# Altium footprint library dolinepcb.PcbLib: 11 footprints
Each footprint in its own frame and in the unit in brackets; x right, y up, seen from the top. Pads: shape width x height; smd on the part's side, far side on the other; paste and mask are expansions set on the pad; w line width, h text height; cw(c..) or ccw(c..) is an arc to the next point about the centre after c.
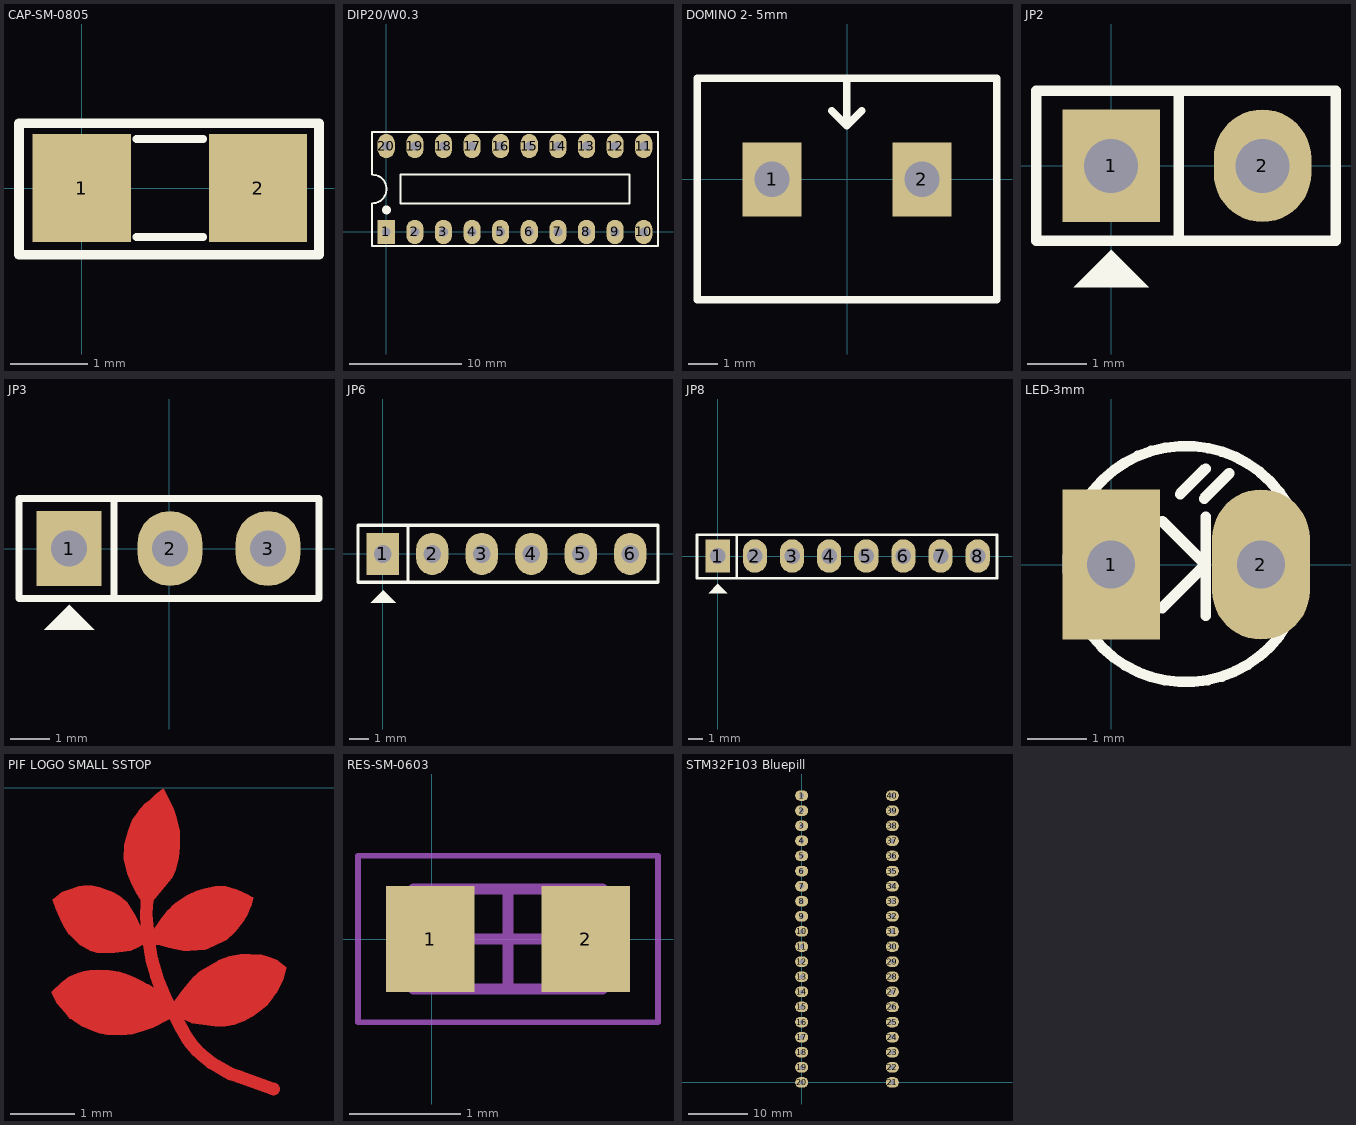
[diagram p0: the footprints below, top view; thin cyan lines are the x and y axes]

## CAP-SM-0805 [mil]
pads (2):
  rect 50x55 smd: 1(0,0) 2(90,0)
Top Overlay:
  lines w4: 28,-25 62,-25 ; 28,25 62,25
  lines w5: -32,-34 -32,33 121,33 121,-34 -32,-34
3D body "0805 SMD Capacitor.step": height 31.39, standoff 0.6, extent 5.63,-24.6 84.37,24.61

## DIP20/W0.3 [mil]
pads (20):
  rect 60x85 hole 31: 1(0,0)
  oval 60x85 hole 31: 2(100,0) 3(200,0) 4(300,0) 5(400,0) 6(500,0) 7(600,0) 8(700,0) 9(800,0) 10(900,0) 11(900,300) 12(800,300) 13(700,300) 14(600,300) 15(500,300) 16(400,300) 17(300,300) 18(200,300) 19(100,300) 20(0,300)
Top Overlay:
  circle w15: c1,77 r8
  lines w7: -50.38,100.05 ccw(c-48.69,150.02) -50,200 ; -50,100 -50,-50 950,-50 950,350 -50,350 -50,201 ; 50,100 850,100 850,200 50,200 50,100
3D body "User Library-20-pin-dip.STEP": height 155, standoff -130, extent -91,-18 945,322

## DOMINO 2- 5mm [mm]
pads (2):
  rect 2x2.5 hole 1.2: 1(-2.54,0) 2(2.54,0)
Top Overlay:
  lines w0.254: -0.521,2.324 -0.013,1.816 ; -0.013,3.378 -0.013,1.816 ; 0.495,2.324 -0.013,1.816 ; -5.08,-4.077 5.08,-4.077 5.08,3.429 -5.08,3.429 -5.08,-4.077
3D body "SW3DPS-HDR1x2-MED-GREEN.STEP": height 10, standoff -4, extent -5,-4.071 5,3.429

## JP2 [mil]
pads (2):
  rect 65x75 hole 36: 1(0,0)
  oval 65x75 hole 36: 2(101,0)
Top Overlay:
  region: 0,-56 -25,-81 25,-81
  lines w7: 45,-50 45,49 ; -50,-50 -50,50 150,50 150,-50 -50,-50
3D body "JP2.stp": height 323.44, standoff -117.51, extent -48.03,-50 148.03,48.43

## JP3 [mil]
pads (3):
  rect 65x75 hole 36: 1(-100,0)
  oval 65x75 hole 36: 2(1,0) 3(99,0)
Top Overlay:
  region: -100,-56 -125,-81 -75,-81
  lines w7: -55,-50 -55,49 ; -150,-50 -150,50 150,50 150,-50 -150,-50
3D body "User Library-PinHeaderX3.STEP": height 355.04, standoff -124.88, extent -150,-59.96 150,55

## JP6 [mil]
pads (6):
  rect 65x85 hole 36: 1(0,0)
  oval 65x85 hole 36: 2(100,0) 3(200,0) 4(300,0) 5(400,0) 6(500,0)
Top Overlay:
  region: 1,-74 -24,-99 26,-99
  lines w7: 51,-57 51,56 ; -50,-57 -50,58 556,58 556,-57 -50,-57
3D body "JP1-6.stp": height 323.43, standoff -117.51, extent -48.03,-50 548.03,48.43

## JP8 [mil]
pads (8):
  rect 65x90 hole 42: 1(0,0)
  oval 65x90 hole 42: 2(100,0) 3(200,0) 4(300,0) 5(400,0) 6(500,0) 7(600,0) 8(700,0)
Top Overlay:
  region: 0,-75 -25,-100 25,-100
  lines w7: 51,-60 51,56 ; -56,-60 752,-60 752,57 -56,57 -56,-60
3D body "JP1-8.stp": height 323.43, standoff -117.51, extent -48.03,-50 748.03,48.43

## LED-3mm [mil]
pads (2):
  rect 65x100 hole 32: 1(0,0)
  oval 65x100 hole 32: 2(100,0)
Top Overlay:
  lines w7: 34,-29 63,0 34,29 ; 46,47 63,64 ; 62,44 79,61 ; 63,-34 63,32 ; 117.92,-39.35 117.92,39.84
  lines w7.01: 117.57,-39.74 cw(c49.8,0.35) 117.72,40.19
3D body "SW3DPS-LED DIP 3MM-DEFAULT.STEP": height 217.14, standoff -117.51, extent -24.8,-74.81 112.99,74.8

## PIF LOGO SMALL SSTOP [mil]
Top Layer:
  region: -224.88,-60.64 -224.92,-60.63 -230.92,-61.6 -230.95,-61.62 -230.98,-61.61 -236.38,-63.18 -236.42,-63.21 -236.48,-63.22 -242.18,-66.08 -242.2,-66.11 -242.22,-66.11 -248.32,-70.01 -248.34,-70.03 -248.36,-70.04 -251.23,-72.24 -251.26,-72.3 -251.32,-72.33 -252.56,-73.89 -254.41,-75.42 -254.45,-75.48 -254.51,-75.52 -256.06,-77.73 -257.94,-79.91 -257.96,-79.95 -257.99,-79.98 -259.58,-82.5 -261.78,-85.66 -261.78,-85.68 -261.8,-85.69 -263.7,-88.85 -263.72,-89 -263.77,-89.13 -263.76,-89.16 -263.77,-89.19 -263.14,-94.89 -263.12,-94.92 -263.13,-94.96 -263.02,-95.1 -262.94,-95.26 -262.9,-95.27 -262.88,-95.29 -261.32,-96.26 -261.2,-96.28 -261.11,-96.34 -258.91,-96.63 -253.59,-98.22 -253.57,-98.22 -253.55,-98.23 -249.42,-99.16 -249.41,-99.16 -244.68,-100.13 -244.62,-100.12 -244.57,-100.14 -240.77,-100.14 -240.75,-100.13 -240.72,-100.14 -231.42,-99.41 -231.35,-99.37 -231.28,-99.37 -226.21,-97.47 -226.19,-97.45 -226.16,-97.45 -218.56,-93.65 -218.51,-93.6 -218.44,-93.57 -212.74,-88.5 -212.72,-88.46 -212.67,-88.43 -208.24,-82.73 -208.23,-82.71 -208.21,-82.69 -205.38,-78.26 -205.37,-78.21 -205.33,-78.17 -203.1,-72.77 -203.1,-72.74 -203.08,-72.71 -201.81,-67.97 -201.83,-67.82 -201.82,-67.67 -201.86,-67.62 -201.86,-67.56 -201.93,-67.52 -201.92,-67.43 -201.94,-67.41 -201.94,-67.38 -202.07,-67.25 -202.19,-67.11 -205.36,-65.55 -207.49,-64.48 -207.5,-64.48 -207.51,-64.48 -212.24,-62.28 -212.29,-62.27 -212.33,-62.24 -218.67,-60.64 -218.74,-60.65 -218.8,-60.63 -224.83,-60.63
  region: -224.88,-60.64 -224.92,-60.63 -230.92,-61.6 -230.95,-61.62 -230.98,-61.61 -236.38,-63.18 -236.42,-63.21 -236.48,-63.22 -242.18,-66.08 -242.2,-66.11 -242.22,-66.11 -248.32,-70.01 -248.34,-70.03 -248.36,-70.04 -251.23,-72.24 -251.26,-72.3 -251.32,-72.33 -252.56,-73.89 -254.41,-75.42 -254.45,-75.48 -254.51,-75.52 -256.06,-77.73 -257.94,-79.91 -257.96,-79.95 -257.99,-79.98 -259.58,-82.5 -261.78,-85.66 -261.78,-85.68 -261.8,-85.69 -263.7,-88.85 -263.72,-89 -263.77,-89.13 -263.76,-89.16 -263.77,-89.19 -263.14,-94.89 -263.12,-94.92 -263.13,-94.96 -263.02,-95.1 -262.94,-95.26 -262.9,-95.27 -262.88,-95.29 -261.32,-96.26 -261.2,-96.28 -261.11,-96.34 -258.91,-96.63 -253.59,-98.22 -253.57,-98.22 -253.55,-98.23 -249.42,-99.16 -249.41,-99.16 -244.68,-100.13 -244.62,-100.12 -244.57,-100.14 -240.77,-100.14 -240.75,-100.13 -240.72,-100.14 -231.42,-99.41 -231.35,-99.37 -231.28,-99.37 -226.21,-97.47 -226.19,-97.45 -226.16,-97.45 -218.56,-93.65 -218.51,-93.6 -218.44,-93.57 -212.74,-88.5 -212.72,-88.46 -212.67,-88.43 -208.24,-82.73 -208.23,-82.71 -208.21,-82.69 -205.38,-78.26 -205.37,-78.21 -205.33,-78.17 -203.1,-72.77 -203.1,-72.74 -203.08,-72.71 -201.81,-67.97 -201.83,-67.82 -201.82,-67.67 -201.86,-67.62 -201.86,-67.56 -201.93,-67.52 -201.92,-67.43 -201.94,-67.41 -201.94,-67.38 -202.07,-67.25 -202.19,-67.11 -205.36,-65.55 -207.49,-64.48 -207.5,-64.48 -207.51,-64.48 -212.24,-62.28 -212.29,-62.27 -212.33,-62.24 -218.67,-60.64 -218.74,-60.65 -218.8,-60.63 -224.83,-60.63
  region: -304.01,-60.01 -304.07,-60 -308.81,-60.63 -308.85,-60.65 -308.9,-60.65 -313.96,-62.25 -313.97,-62.25 -318.74,-63.82 -318.81,-63.88 -318.9,-63.91 -324.6,-68.34 -324.66,-68.45 -324.75,-68.53 -324.76,-68.62 -324.8,-68.7 -324.77,-68.82 -324.78,-68.95 -322.88,-74.35 -322.86,-74.36 -322.86,-74.38 -319.36,-82.61 -319.34,-82.64 -319.33,-82.68 -317.43,-85.84 -317.43,-85.85 -314.89,-89.95 -314.84,-89.99 -314.81,-90.06 -307.84,-96.72 -307.77,-96.75 -307.72,-96.81 -301.72,-99.98 -301.67,-99.98 -301.64,-100.01 -297.84,-101.28 -297.75,-101.27 -297.67,-101.31 -286.9,-101.31 -286.87,-101.3 -286.84,-101.3 -281.44,-100.67 -281.43,-100.67 -281.42,-100.67 -276.99,-100.04 -276.93,-100 -276.86,-100 -273.06,-98.4 -273.04,-98.38 -273.01,-98.37 -269.54,-96.47 -269.49,-96.41 -269.42,-96.38 -269.37,-96.26 -269.28,-96.15 -269.29,-96.07 -269.26,-96 -269.26,-89.37 -269.3,-89.26 -269.3,-89.15 -273.74,-79.02 -273.77,-78.99 -273.78,-78.94 -279.48,-70.07 -279.55,-70.03 -279.59,-69.95 -283.06,-67.08 -283.09,-67.07 -283.11,-67.04 -287.54,-64.21 -287.6,-64.2 -287.64,-64.16 -295.87,-60.99 -295.93,-61 -295.97,-60.97 -301.37,-60 -301.55,-60.04 -301.74,-60.06 -301.75,-60.08 -301.78,-60.09 -301.86,-60.21 -303.94,-60
  region: -304.01,-60.01 -304.07,-60 -308.81,-60.63 -308.85,-60.65 -308.9,-60.65 -313.96,-62.25 -313.97,-62.25 -318.74,-63.82 -318.81,-63.88 -318.9,-63.91 -324.6,-68.34 -324.66,-68.45 -324.75,-68.53 -324.76,-68.62 -324.8,-68.7 -324.77,-68.82 -324.78,-68.95 -322.88,-74.35 -322.86,-74.36 -322.86,-74.38 -319.36,-82.61 -319.34,-82.64 -319.33,-82.68 -317.43,-85.84 -317.43,-85.85 -314.89,-89.95 -314.84,-89.99 -314.81,-90.06 -307.84,-96.72 -307.77,-96.75 -307.72,-96.81 -301.72,-99.98 -301.67,-99.98 -301.64,-100.01 -297.84,-101.28 -297.75,-101.27 -297.67,-101.31 -286.9,-101.31 -286.87,-101.3 -286.84,-101.3 -281.44,-100.67 -281.43,-100.67 -281.42,-100.67 -276.99,-100.04 -276.93,-100 -276.86,-100 -273.06,-98.4 -273.04,-98.38 -273.01,-98.37 -269.54,-96.47 -269.49,-96.41 -269.42,-96.38 -269.37,-96.26 -269.28,-96.15 -269.29,-96.07 -269.26,-96 -269.26,-89.37 -269.3,-89.26 -269.3,-89.15 -273.74,-79.02 -273.77,-78.99 -273.78,-78.94 -279.48,-70.07 -279.55,-70.03 -279.59,-69.95 -283.06,-67.08 -283.09,-67.07 -283.11,-67.04 -287.54,-64.21 -287.6,-64.2 -287.64,-64.16 -295.87,-60.99 -295.93,-61 -295.97,-60.97 -301.37,-60 -301.55,-60.04 -301.74,-60.06 -301.75,-60.08 -301.78,-60.09 -301.86,-60.21 -303.94,-60
  region: -297.44,-111.74 -297.47,-111.73 -301.9,-112.03 -301.93,-112.04 -301.96,-112.03 -305.76,-112.67 -305.79,-112.69 -305.84,-112.69 -309.64,-113.95 -309.66,-113.97 -309.68,-113.97 -311.91,-114.93 -315.07,-116.2 -315.12,-116.25 -315.2,-116.27 -319.3,-119.44 -319.31,-119.46 -319.34,-119.47 -325.37,-125.17 -325.42,-125.29 -325.51,-125.38 -325.5,-125.47 -325.54,-125.55 -325.5,-125.67 -325.49,-125.79 -323.89,-129.26 -323.88,-129.27 -323.87,-129.29 -322.31,-132.16 -322.27,-132.19 -322.26,-132.24 -319.72,-135.4 -319.71,-135.41 -319.7,-135.43 -317.18,-138.25 -314.32,-141.74 -314.16,-141.83 -314,-141.93 -313,-142.12 -311.75,-143.35 -311.68,-143.38 -311.64,-143.43 -306.28,-146.6 -306.24,-146.6 -306.22,-146.63 -301.15,-148.86 -301.14,-148.86 -301.13,-148.87 -296.37,-150.77 -296.31,-150.77 -296.27,-150.8 -291.54,-151.73 -291.49,-151.72 -291.45,-151.74 -282.59,-152.07 -282.55,-152.06 -282.51,-152.07 -276.18,-151.44 -276.13,-151.41 -276.08,-151.42 -269.74,-149.52 -269.73,-149.51 -269.72,-149.51 -263.39,-147.28 -263.36,-147.25 -263.32,-147.25 -253.19,-142.18 -253.13,-142.12 -253.05,-142.08 -253.01,-141.98 -252.93,-141.91 -252.93,-141.89 -252.92,-141.87 -252.93,-141.78 -252.89,-141.7 -252.93,-141.6 -252.93,-141.49 -256.73,-132.33 -256.81,-132.25 -256.85,-132.15 -259.49,-129.48 -259.23,-127.85 -259.24,-127.83 -259.23,-127.82 -259.28,-127.63 -259.33,-127.45 -259.35,-127.44 -259.35,-127.42 -261.32,-125.06 -261.3,-125.07 -261.11,-125.09 -260.92,-125.13 -260.91,-125.12 -260.89,-125.12 -260.74,-125 -260.58,-124.89 -260.58,-124.88 -260.56,-124.87 -260.54,-124.68 -260.5,-124.49 -260.51,-124.47 -260.51,-124.46 -260.63,-124.3 -260.74,-124.15 -266.11,-120.68 -266.28,-120.65 -266.45,-120.59 -266.48,-120.61 -266.51,-120.6 -266.66,-120.71 -266.67,-120.71 -269.92,-118.77 -269.95,-118.76 -269.97,-118.74 -274.74,-116.51 -274.75,-116.51 -274.76,-116.5 -280.13,-114.3 -280.15,-114.3 -280.16,-114.29 -283.96,-113.02 -284.01,-113.02 -284.05,-113 -290.08,-112.03 -290.11,-112.04 -290.14,-112.03 -297.41,-111.73
  region: -209.78,-102.25 -209.83,-102.23 -216.47,-103.5 -216.51,-103.53 -216.56,-103.53 -223.23,-106.06 -223.26,-106.1 -223.31,-106.1 -229,-109.56 -232.46,-111.46 -232.48,-111.48 -232.51,-111.49 -235.68,-113.72 -235.7,-113.75 -235.73,-113.76 -238.89,-116.6 -238.91,-116.64 -238.95,-116.66 -244.98,-123.96 -244.99,-123.97 -245.01,-123.98 -250.71,-131.88 -250.73,-131.98 -250.79,-132.05 -250.78,-132.13 -250.81,-132.2 -250.79,-132.24 -250.8,-132.29 -250.75,-132.37 -250.74,-132.46 -247.33,-138.63 -247.63,-140.34 -247.6,-140.48 -247.61,-140.62 -247.56,-140.67 -247.54,-140.74 -247.42,-140.82 -247.33,-140.92 -239.73,-144.42 -239.64,-144.43 -239.57,-144.47 -225.3,-146.37 -225.27,-146.36 -225.23,-146.37 -218.6,-146.37 -218.55,-146.35 -218.5,-146.36 -213.43,-145.4 -213.4,-145.38 -213.36,-145.38 -207.02,-143.18 -206.98,-143.14 -206.93,-143.14 -202.5,-140.6 -202.48,-140.58 -202.46,-140.58 -196.12,-136.14 -196.11,-136.12 -196.07,-136.11 -193.21,-133.57 -193.19,-133.53 -193.15,-133.51 -190.31,-130.01 -190.31,-129.98 -190.28,-129.97 -187.75,-126.17 -187.75,-126.15 -187.73,-126.14 -185.2,-121.7 -185.19,-121.68 -185.18,-121.66 -183.28,-117.56 -183.27,-117.52 -183.25,-117.48 -181.35,-110.81 -181.36,-110.71 -181.33,-110.61 -181.38,-110.51 -181.39,-110.4 -181.48,-110.34 -181.53,-110.25 -186.59,-106.15 -186.67,-106.12 -186.73,-106.06 -191.47,-104.16 -191.49,-104.16 -191.5,-104.15 -196.57,-102.55 -196.65,-102.56 -196.73,-102.53 -197.06,-102.53 -203.68,-102.23 -203.69,-102.23 -203.7,-102.23 -209.73,-102.23
  region: -209.78,-102.25 -209.83,-102.23 -216.47,-103.5 -216.51,-103.53 -216.56,-103.53 -223.23,-106.06 -223.26,-106.1 -223.31,-106.1 -229,-109.56 -232.46,-111.46 -232.48,-111.48 -232.51,-111.49 -235.68,-113.72 -235.7,-113.75 -235.73,-113.76 -238.89,-116.6 -238.91,-116.64 -238.95,-116.66 -244.98,-123.96 -244.99,-123.97 -245.01,-123.98 -250.71,-131.88 -250.73,-131.98 -250.79,-132.05 -250.78,-132.13 -250.81,-132.2 -250.79,-132.24 -250.8,-132.29 -250.75,-132.37 -250.74,-132.46 -247.33,-138.63 -247.63,-140.34 -247.6,-140.48 -247.61,-140.62 -247.56,-140.67 -247.54,-140.74 -247.42,-140.82 -247.33,-140.92 -239.73,-144.42 -239.64,-144.43 -239.57,-144.47 -225.3,-146.37 -225.27,-146.36 -225.23,-146.37 -218.6,-146.37 -218.55,-146.35 -218.5,-146.36 -213.43,-145.4 -213.4,-145.38 -213.36,-145.38 -207.02,-143.18 -206.98,-143.14 -206.93,-143.14 -202.5,-140.6 -202.48,-140.58 -202.46,-140.58 -196.12,-136.14 -196.11,-136.12 -196.07,-136.11 -193.21,-133.57 -193.19,-133.53 -193.15,-133.51 -190.31,-130.01 -190.31,-129.98 -190.28,-129.97 -187.75,-126.17 -187.75,-126.15 -187.73,-126.14 -185.2,-121.7 -185.19,-121.68 -185.18,-121.66 -183.28,-117.56 -183.27,-117.52 -183.25,-117.48 -181.35,-110.81 -181.36,-110.71 -181.33,-110.61 -181.38,-110.51 -181.39,-110.4 -181.48,-110.34 -181.53,-110.25 -186.59,-106.15 -186.67,-106.12 -186.73,-106.06 -191.47,-104.16 -191.49,-104.16 -191.5,-104.15 -196.57,-102.55 -196.65,-102.56 -196.73,-102.53 -197.06,-102.53 -203.68,-102.23 -203.69,-102.23 -203.7,-102.23 -209.73,-102.23
  region: -297.44,-111.74 -297.47,-111.73 -301.9,-112.03 -301.93,-112.04 -301.96,-112.03 -305.76,-112.67 -305.79,-112.69 -305.84,-112.69 -309.64,-113.95 -309.66,-113.97 -309.68,-113.97 -311.91,-114.93 -315.07,-116.2 -315.12,-116.25 -315.2,-116.27 -319.3,-119.44 -319.31,-119.46 -319.34,-119.47 -325.37,-125.17 -325.42,-125.29 -325.51,-125.38 -325.5,-125.47 -325.54,-125.55 -325.5,-125.67 -325.49,-125.79 -323.89,-129.26 -323.88,-129.27 -323.87,-129.29 -322.31,-132.16 -322.27,-132.19 -322.26,-132.24 -319.72,-135.4 -319.71,-135.41 -319.7,-135.43 -317.18,-138.25 -314.32,-141.74 -314.16,-141.83 -314,-141.93 -313,-142.12 -311.75,-143.35 -311.68,-143.38 -311.64,-143.43 -306.28,-146.6 -306.24,-146.6 -306.22,-146.63 -301.15,-148.86 -301.14,-148.86 -301.13,-148.87 -296.37,-150.77 -296.31,-150.77 -296.27,-150.8 -291.54,-151.73 -291.49,-151.72 -291.45,-151.74 -282.59,-152.07 -282.55,-152.06 -282.51,-152.07 -276.18,-151.44 -276.13,-151.41 -276.08,-151.42 -269.74,-149.52 -269.73,-149.51 -269.72,-149.51 -263.39,-147.28 -263.36,-147.25 -263.32,-147.25 -253.19,-142.18 -253.13,-142.12 -253.05,-142.08 -253.01,-141.98 -252.93,-141.91 -252.93,-141.89 -252.92,-141.87 -252.93,-141.78 -252.89,-141.7 -252.93,-141.6 -252.93,-141.49 -256.73,-132.33 -256.81,-132.25 -256.85,-132.15 -259.49,-129.48 -259.23,-127.85 -259.24,-127.83 -259.23,-127.82 -259.28,-127.63 -259.33,-127.45 -259.35,-127.44 -259.35,-127.42 -261.32,-125.06 -261.3,-125.07 -261.11,-125.09 -260.92,-125.13 -260.91,-125.12 -260.89,-125.12 -260.74,-125 -260.58,-124.89 -260.58,-124.88 -260.56,-124.87 -260.54,-124.68 -260.5,-124.49 -260.51,-124.47 -260.51,-124.46 -260.63,-124.3 -260.74,-124.15 -266.11,-120.68 -266.28,-120.65 -266.45,-120.59 -266.48,-120.61 -266.51,-120.6 -266.66,-120.71 -266.67,-120.71 -269.92,-118.77 -269.95,-118.76 -269.97,-118.74 -274.74,-116.51 -274.75,-116.51 -274.76,-116.5 -280.13,-114.3 -280.15,-114.3 -280.16,-114.29 -283.96,-113.02 -284.01,-113.02 -284.05,-113 -290.08,-112.03 -290.11,-112.04 -290.14,-112.03 -297.41,-111.73
  region: -257.23,-0.84 -257.41,-0.87 -257.43,-0.9 -257.46,-0.91 -261.56,-4.07 -261.58,-4.09 -261.6,-4.1 -265.08,-7.25 -268.24,-9.78 -268.26,-9.82 -268.31,-9.85 -272.41,-14.58 -272.42,-14.61 -272.45,-14.63 -275.95,-19.69 -275.96,-19.76 -276.01,-19.81 -278.54,-26.47 -278.54,-26.51 -278.56,-26.53 -280.76,-35.06 -280.75,-35.12 -280.77,-35.18 -281.11,-43.75 -281.08,-43.81 -281.1,-43.88 -279.19,-52.42 -279.16,-52.46 -279.16,-52.51 -276.3,-59.18 -276.28,-59.2 -276.28,-59.22 -273.11,-65.22 -273.1,-65.23 -273.1,-65.24 -270.27,-70.01 -270.22,-70.04 -270.2,-70.1 -267.33,-73.26 -267.32,-73.27 -267.32,-73.28 -267.29,-73.29 -267.28,-73.31 -267.12,-73.37 -266.96,-73.44 -266.95,-73.44 -266.93,-73.44 -266.91,-73.43 -266.89,-73.44 -266.73,-73.36 -266.57,-73.3 -266.56,-73.29 -266.55,-73.28 -266.54,-73.26 -266.52,-73.25 -254.82,-59.31 -251.65,-55.51 -251.63,-55.44 -251.57,-55.38 -249.34,-50.32 -249.34,-50.27 -249.31,-50.24 -247.41,-42.94 -247.42,-42.89 -247.39,-42.85 -246.76,-36.22 -246.77,-36.19 -246.76,-36.17 -246.76,-26.93 -246.79,-26.87 -246.78,-26.8 -249.01,-17.97 -249.02,-17.95 -249.02,-17.93 -250.92,-12.23 -250.95,-12.2 -250.95,-12.16 -253.14,-7.74 -254.41,-4.91 -254.43,-4.89 -254.43,-4.86 -256.67,-1.06 -256.7,-1.04 -256.7,-1 -256.86,-0.92 -257,-0.81 -257.03,-0.81 -257.06,-0.8
  region: -257.23,-0.84 -257.41,-0.87 -257.43,-0.9 -257.46,-0.91 -261.56,-4.07 -261.58,-4.09 -261.6,-4.1 -265.08,-7.25 -268.24,-9.78 -268.26,-9.82 -268.31,-9.85 -272.41,-14.58 -272.42,-14.61 -272.45,-14.63 -275.95,-19.69 -275.96,-19.76 -276.01,-19.81 -278.54,-26.47 -278.54,-26.51 -278.56,-26.53 -280.76,-35.06 -280.75,-35.12 -280.77,-35.18 -281.11,-43.75 -281.08,-43.81 -281.1,-43.88 -279.19,-52.42 -279.16,-52.46 -279.16,-52.51 -276.3,-59.18 -276.28,-59.2 -276.28,-59.22 -273.11,-65.22 -273.1,-65.23 -273.1,-65.24 -270.27,-70.01 -270.22,-70.04 -270.2,-70.1 -267.33,-73.26 -267.32,-73.27 -267.32,-73.28 -267.29,-73.29 -267.28,-73.31 -267.12,-73.37 -266.96,-73.44 -266.95,-73.44 -266.93,-73.44 -266.91,-73.43 -266.89,-73.44 -266.73,-73.36 -266.57,-73.3 -266.56,-73.29 -266.55,-73.28 -266.54,-73.26 -266.52,-73.25 -254.82,-59.31 -251.65,-55.51 -251.63,-55.44 -251.57,-55.38 -249.34,-50.32 -249.34,-50.27 -249.31,-50.24 -247.41,-42.94 -247.42,-42.89 -247.39,-42.85 -246.76,-36.22 -246.78,-36.17 -246.76,-36.12 -247.73,-25.35 -247.74,-25.33 -247.73,-25.31 -249,-18.01 -249.02,-17.97 -249.02,-17.93 -250.92,-12.23 -250.95,-12.2 -250.95,-12.16 -253.14,-7.74 -254.41,-4.91 -254.43,-4.89 -254.43,-4.86 -256.67,-1.06 -256.7,-1.04 -256.7,-1 -256.86,-0.92 -257,-0.81 -257.03,-0.81 -257.06,-0.8
  lines w7.87: -267.4,-78.4 -267.13,-71.47 ; -267.4,-78.4 -267.13,-71.47 ; -267.4,-78.4 -266.87,-84.27 ; -267.4,-78.4 -266.87,-84.27 ; -267.13,-71.47 -266.6,-68 -267.13,-71.47 ; -266.87,-84.27 -266.33,-90.67 ; -266.87,-84.27 -266.33,-90.67 ; -266.33,-90.67 -265,-100 ; -266.33,-90.67 -265,-100 ; -265,-100 -263.93,-105.6 ; -265,-100 -263.93,-105.6 ; -263.93,-105.6 -261.03,-115.77 ; -263.93,-105.6 -261.03,-115.77 ; -261.03,-115.77 -260.23,-118.43 ; -261.03,-115.77 -260.23,-118.43 ; -260.23,-118.43 -256.23,-128.03 ; -260.23,-118.43 -256.23,-128.03 ; -256.23,-128.03 -252.23,-135.5 ; -256.23,-128.03 -252.23,-135.5 ; -252.23,-135.5 -245.57,-148.03 ; -252.23,-135.5 -245.57,-148.03 ; -245.57,-148.03 -242.63,-153.1 ; -245.57,-148.03 -242.63,-153.1 ; -242.63,-153.1 -239.97,-157.1 ; -242.63,-153.1 -239.97,-157.1 ; -239.97,-157.1 -236.23,-161.37 ; -239.97,-157.1 -236.23,-161.37 ; -236.23,-161.37 -233.33,-164.07 ; -236.23,-161.37 -233.33,-164.07 ; -233.33,-164.07 -227.27,-169.03 ; -233.33,-164.07 -227.27,-169.03 ; -227.27,-169.03 -219.57,-173.43 ; -227.27,-169.03 -219.57,-173.43 ; -219.57,-173.43 -215.73,-175.63 ; -219.57,-173.43 -215.73,-175.63 ; -215.73,-175.63 -210.77,-177.27 ; -215.73,-175.63 -210.77,-177.27 ; -210.77,-177.27 -189.33,-184.97 -210.77,-177.27
  text "PIF" at -184.06,-197.83 h56.26

## RES-SM-0603 [mm]
pads (2):
  rect 0.8x0.95 smd: 1(-0.014,0) 2(1.386,0)
Mechanical 13:
  lines w0.1: -0.164,-0.45 1.536,-0.45 1.536,0.45 -0.164,0.45 -0.164,-0.45
Mechanical 15:
  lines w0.05: -0.664,-0.75 2.036,-0.75 2.036,0.75 -0.664,0.75 -0.664,-0.75
  lines w0.1: 0.236,0 1.136,0 ; 0.686,-0.45 0.686,0.45
3D body "User Library-0603 SMD Capacitor.step": height 0.3, standoff 0, extent -0.114,-0.4 1.486,0.4

## STM32F103 Bluepill [mil]
pads (40):
  oval 86.61x70 hole 32: 1(0,1900) 2(0,1800) 3(0,1700) 4(0,1600) 5(0,1500) 6(0,1400) 7(0,1300) 8(0,1200) 9(0,1100) 10(0,1000) 11(0,900) 12(0,800) 13(0,700) 14(0,600) 15(0,500) 16(0,400) 17(0,300) 18(0,200) 19(0,100) 20(0,0) 21(600,0) 22(600,100) 23(600,200) 24(600,300) 25(600,400) 26(600,500) 27(600,600) 28(600,700) 29(600,800) 30(600,900) 31(600,1000) 32(600,1100) 33(600,1200) 34(600,1300) 35(600,1400) 36(600,1500) 37(600,1600) 38(600,1700) 39(600,1800) 40(600,1900)
3D body "BluePill2_1567071806.STEP": height 571.26, standoff -115, extent -140.83,-112.53 745,2195.99